# EAGLE library part 693043020611 (library CONNECTORs)
Memory Socket, WR-CRD Series, Nano SIM, 6 Contacts, Copper Alloy, Gold Plated Contacts
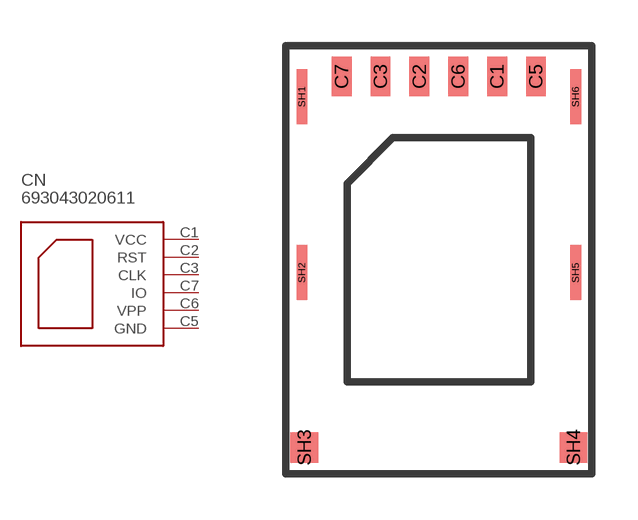
[diagram p30: symbol with the pads of WURTH_693043020611; footprint WURTH_693043020611]

Designator prefix CN

## 693043020611 (FARNELL: 2470827; PRICE10: PRICE_PER; VALUE: NANO SIM)  [WURTH_693043020611]
C1  VCC
C2  RST
C3  CLK
C5  GND
C6  VPP
C7  IO

## Footprint WURTH_693043020611 (pad centres in mm)
smd 0.65 x 1.3: C1 1.905,6; C2 -0.635,6; C3 -1.905,6; C5 3.175,6; C6 0.635,6; C7 -3.175,6
smd 0.35 x 1.8: SH1 -4.475,5.33; SH2 -4.475,-0.42; SH5 4.475,-0.42; SH6 4.475,5.33
smd 0.9 x 1: SH3 -4.4,-6.14; SH4 4.4,-6.14